# Altium footprint library Capacitors.PcbLib: 3 footprints
Each footprint in its own frame and in the unit in brackets; x right, y up, seen from the top. Pads: shape width x height; smd on the part's side, far side on the other; paste and mask are expansions set on the pad; w line width, h text height; cw(c..) or ccw(c..) is an arc to the next point about the centre after c.
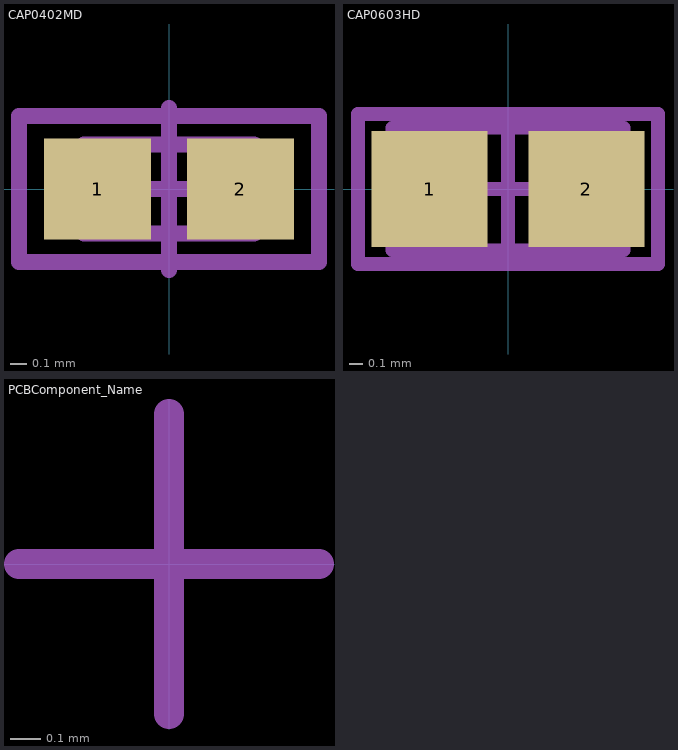
[diagram p0: the footprints below, top view; thin cyan lines are the x and y axes]

## CAP0402MD [mm] "Chip Capacitor, 2-Leads, Body 1,00x0,50mm, IPC Medium Density"
height 0.33
pads (2):
  rect 0.66x0.62 smd paste+0 mask+0.11: 1(-0.44,0)
  rect 0.66x0.62 smd mask+0.11: 2(0.44,0)
Top Assembly:
  lines w0.1: -0.525,-0.275 0.525,-0.275 0.525,0.275 -0.525,0.275 -0.525,-0.275
Top Component Center:
  lines w0.1: -0.5,0 0.5,0 ; 0,-0.5 0,0.5
Top Component Outline:
  lines w0.1: -0.525,-0.275 0.525,-0.275 0.525,0.275 -0.525,0.275 -0.525,-0.275
Top Courtyard:
  lines w0.1: -0.925,-0.45 0.925,-0.45 0.925,0.45 -0.65,0.45 -0.925,0.45 -0.925,-0.45
Top Designator:
  text "''.Designator''" at 0,0 h2
Top Value:
  text "''.Comment''" at 0,0 h2
3D body "CAPC1005X03N.step": height 0.33, standoff 0, extent -0.525,-0.275 0.525,0.275

## CAP0603HD [mm] "IPC 0603 High density"
height 0.9
pads (2):
  rect 0.85x0.85 smd: 1(-0.575,0) 2(0.575,0)
Top Assembly:
  lines w0.1: -0.85,-0.45 -0.85,0.45 0.85,0.45 0.85,-0.45 -0.85,-0.45
Top Component Center:
  lines w0.1: -0.5,0 0.5,0 ; 0,-0.5 0,0.5
Top Component Outline:
  lines w0.1: -0.85,-0.45 -0.85,0.45 0.85,0.45 0.85,-0.45 -0.85,-0.45
Top Courtyard:
  lines w0.1: -1.1,-0.55 -1.1,0.55 1.1,0.55 1.1,-0.55 -1.1,-0.55
Top Designator:
  text "''.Designator''" at 0,0 h2
Top Value:
  text "''.Comment''" at 0,0 h2
3D body "CAPC1608X09L.step": height 0.9, standoff 0, extent -0.85,-0.45 0.85,0.45

## PCBComponent_Name [mm] "Description goes here"
Top Component Center:
  lines w0.1: -0.5,0 0.5,0 ; 0,-0.5 0,0.5
Top Designator:
  text "''.Designator''" at 0,0 h2
Top Value:
  text "''.Comment''" at 0,0 h2